# Altium schematic symbol library LED.SchLib: 6 symbols
Pins are listed as number, name and electrical type; pins without a type are passive.

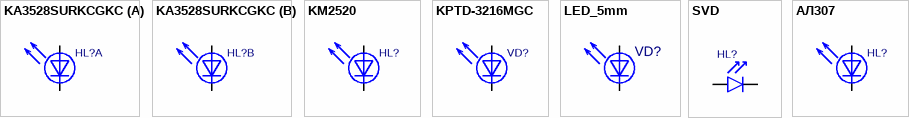
[diagram p0: symbols KA3528SURKCGKC to АЛ307]

## KA3528SURKCGKC
designator HL?  (value not drawn)
KA3528SURKCGKC; Value: *
footprint AA3528_KA3528SURKCGKC(Primary)
part A pins: RN, RP
part B pins: GN, GP

## KM2520
designator HL?  (value not drawn)
KM2520; Value: *
footprint KM2520
pins: 1, 2

## KPTD-3216MGC
designator VD?  (value not drawn)
KPTD-3216MGC; Value: *
footprint LED1206
pins: 1, 2

## LED_5mm
designator VD?  (value not drawn)
footprint LED_5mm
pins: 1, 2

## SVD
designator HL?  (value not drawn)
SVD; Value: *
footprint KM2520
pins: 1 A, 2 C

## АЛ307
designator HL?  (value not drawn)
АЛ307; Docum: аА0.336.076ТУ; Author: Sevastianov; Value: *
footprint КИ2-3_Primary
footprint КИ2-3_g
footprint КИ2-3_g+1
footprint КИ2-3_g+2
footprint КИ2-3_g-1
footprint КИ2-3_gg
pins: 1 A, 2 K